# Altium footprint library SULLINS_PPPC082LFBN-RC.PcbLib: 1 footprints
Each footprint in its own frame and in the unit in brackets; x right, y up, seen from the top. Pads: shape width x height; smd on the part's side, far side on the other; paste and mask are expansions set on the pad; w line width, h text height; cw(c..) or ccw(c..) is an arc to the next point about the centre after c.
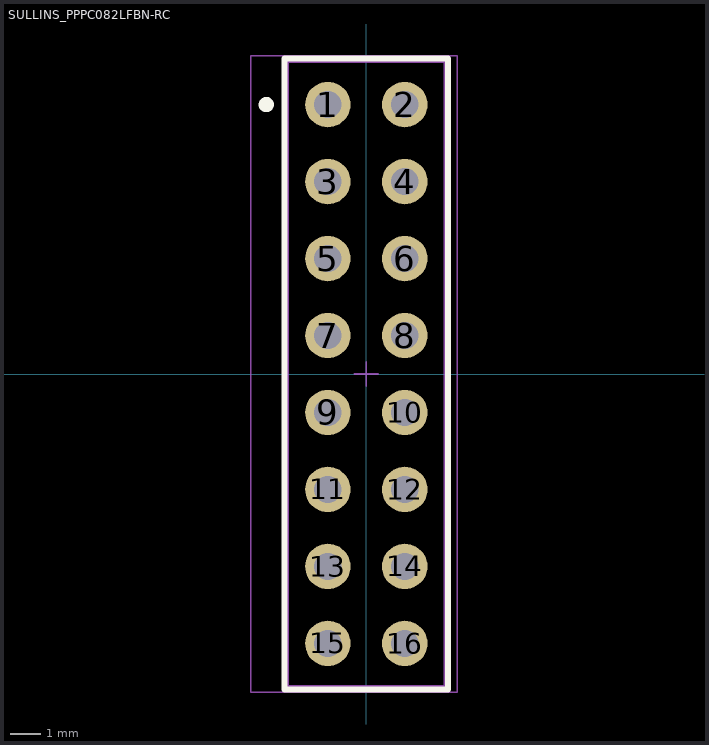
[diagram p0: the footprint, top view; thin cyan lines are the x and y axes]

## SULLINS_PPPC082LFBN-RC [mm]
height 7.15
pads (16):
  round 1.5 hole 0.9: 1(-1.27,8.89) 2(1.27,8.89) 3(-1.27,6.35) 4(1.27,6.35) 5(-1.27,3.81) 6(1.27,3.81) 7(-1.27,1.27) 8(1.27,1.27) 9(-1.27,-1.27) 10(1.27,-1.27) 11(-1.27,-3.81) 12(1.27,-3.81) 13(-1.27,-6.35) 14(1.27,-6.35) 15(-1.27,-8.89) 16(1.27,-8.89)
Top Overlay:
  circle w0.3: c-3.3,8.89 r0.1
  lines w0.2: -2.7,-10.405 -2.7,10.405 2.7,10.405 2.7,-10.405 -2.7,-10.405
Mechanical 13:
  lines w0.1: -2.605,-10.31 2.605,-10.31 2.605,10.31 -2.605,10.31 -2.605,-10.31
Mechanical 15:
  lines w0.05: -0.4,0 0.4,0 ; 0,-0.4 0,0.4 ; -3.81,-10.5 -3.81,10.5 3,10.5 3,-10.5 -3.81,-10.5
3D body "SULLINS_PPPC082LFBN-RC.STEP": height 8.51, standoff -3.2, extent -2.54,-10.414 2.54,10.414